# Altium schematic symbol library RT9193.SchLib: 15 symbols
Pins are listed as number, name and electrical type; pins without a type are passive.

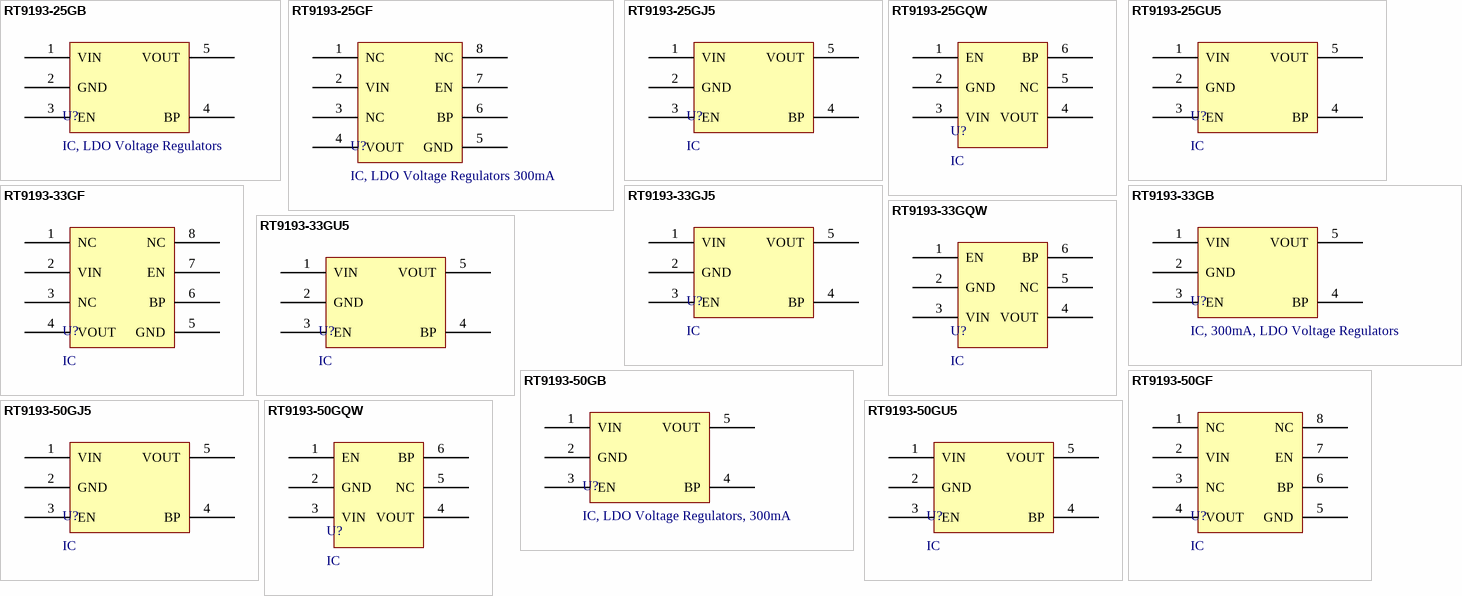
[diagram p0: symbols RT9193-25GB to RT9193-50GU5]

## RT9193-25GB
designator U?, comment IC, LDO Voltage Regulators
LDO Voltage Regulators 300mA, Ultra-Low Noise, Ultra-Fast CMOS LDO Regulator, SOT-23-5, 2.5 V; Kiểu gắn: SMD/SMT; Điện áp đầu ra: 2.5 V; Số lượng đầu ra: 1 Output; Dòng tĩnh: 90 uA; Điện áp đầu vào, Tối đa: 5.5 V; PSRR / Loại bỏ gợn sóng - Điển hình: - 70 dB; Nhiệt độ làm việc tối thiểu: - 40 C; Nhiệt độ làm việc tối đa: + 85 C; Điện áp sụt: 220 mV; Danh mục Sản phẩm: Bộ ổn áp LDO; Đóng gói: SOT-23-5; Dòng đầu ra: 300 mA; ComponentLink1Description: Datasheet; ComponentLink1URL: https://www.mouser.vn/datasheet/2/1458/DS9193_18-3104722.pdf; ComponentLink2Description: Local Supply; ComponentLink2URL: https://www.mouser.vn/ProductDetail/Richtek/RT9193-25GB?qs=amGC7iS6iy%252BWegPok0BkoQ%3D%3D; Điện áp đầu vào, Tối thiểu: 2.5 V
footprint RT9193-25GB (SOT23, 5-Leads, Body 2.90x2.79mm, Pitch 0.95mm, IPC Medium Density)
pins: 1 VIN (power), 2 GND (power), 3 EN (power), 4 BP (power), 5 VOUT (power)

## RT9193-25GF
designator U?, comment IC, LDO Voltage Regulators 300mA
LDO Voltage Regulators 300mA, Ultra-Low Noise, Ultra-Fast CMOS LDO Regulator, MSOP-8, 2.5V; Danh mục Sản phẩm: Bộ ổn áp LDO; Kiểu gắn: SMD/SMT; Dòng tĩnh: 90 uA; Điện áp đầu vào, Tối đa: 5.5 V; PSRR / Loại bỏ gợn sóng - Điển hình: - 70 dB; Nhiệt độ làm việc tối thiểu: - 40 C; Nhiệt độ làm việc tối đa: + 85 C; Điện áp sụt: 220 mV; ComponentLink1Description: Datasheet; ComponentLink1URL: https://www.mouser.vn/datasheet/2/1458/DS9193_18-3104722.pdf; Đóng gói: MSOP-8; Điện áp đầu ra: 2.5V; Dòng đầu ra: 300 mA; Điện áp đầu vào, Tối thiểu: 2.5 V
footprint RT9193-25GF (TSOP, 8-Leads, Body 3.00x3.00mm, Pitch 0.65mm, IPC Medium Density)
pins: 1 NC (power), 2 VIN (power), 3 NC (power), 4 VOUT (power), 5 GND (power), 6 BP (power), 7 EN (power), 8 NC (power)

## RT9193-25GJ5
designator U?, comment IC
LDO Voltage Regulators 300mA, Ultra-Low Noise, Ultra-Fast CMOS LDO Regulator, TSOT-23-5, 2.5V; Danh mục Sản phẩm: Bộ ổn áp LDO; Kiểu gắn: SMD/SMT; Dòng tĩnh: 90 uA; Điện áp đầu vào, Tối đa: 5.5 V; PSRR / Loại bỏ gợn sóng - Điển hình: - 70 dB; Nhiệt độ làm việc tối thiểu: - 40 C; Nhiệt độ làm việc tối đa: + 85 C; Điện áp sụt: 220 mV; ComponentLink1Description: Datasheet; ComponentLink1URL: https://www.mouser.vn/datasheet/2/1458/DS9193_18-3104722.pdf; Đóng gói: TSOT-23-5; Điện áp đầu ra: 2.5V; Dòng đầu ra: 300 mA; Điện áp đầu vào, Tối thiểu: 2.5 V
footprint RT9193-25GJ5 (SOT23, 5-Leads, Body 2.90x2.80mm, Pitch 0.95mm, IPC Medium Density)
pins: 1 VIN (power), 2 GND (power), 3 EN (power), 4 BP (power), 5 VOUT (power)

## RT9193-25GQW
designator U?, comment IC
LDO Voltage Regulators 300mA, Ultra-Low Noise, Ultra-Fast CMOS LDO Regulator, WDFN-6L 2x2 (W-Type), 2.5V; Danh mục Sản phẩm: Bộ ổn áp LDO; Kiểu gắn: SMD/SMT; Dòng tĩnh: 90 uA; Điện áp đầu vào, Tối đa: 5.5 V; PSRR / Loại bỏ gợn sóng - Điển hình: - 70 dB; Nhiệt độ làm việc tối thiểu: - 40 C; Nhiệt độ làm việc tối đa: + 85 C; Điện áp sụt: 220 mV; ComponentLink1Description: Datasheet; ComponentLink1URL: https://www.mouser.vn/datasheet/2/1458/DS9193_18-3104722.pdf; Đóng gói: WDFN-6L 2x2 (W-Type); Điện áp đầu ra: 2.5V; Dòng đầu ra: 300 mA; Điện áp đầu vào, Tối thiểu: 2.5 V
footprint RT9193-25GQW (SON, 6-Leads, Body 2.00x2.00mm, Pitch 0.65mm, Thermal Pad 1.23x0.68mm, IPC Medium Density)
pins: 1 EN (power), 2 GND (power), 3 VIN (power), 4 VOUT (power), 5 NC (power), 6 BP (power)

## RT9193-25GU5
designator U?, comment IC
LDO Voltage Regulators 300mA, Ultra-Low Noise, Ultra-Fast CMOS LDO Regulator, SC-70-5, 2.5V; Danh mục Sản phẩm: Bộ ổn áp LDO; Kiểu gắn: SMD/SMT; Dòng tĩnh: 90 uA; Điện áp đầu vào, Tối đa: 5.5 V; PSRR / Loại bỏ gợn sóng - Điển hình: - 70 dB; Nhiệt độ làm việc tối thiểu: - 40 C; Nhiệt độ làm việc tối đa: + 85 C; Điện áp sụt: 220 mV; ComponentLink1Description: Datasheet; ComponentLink1URL: https://www.mouser.vn/datasheet/2/1458/DS9193_18-3104722.pdf; Đóng gói: SC-70-5; Điện áp đầu ra: 2.5V; Dòng đầu ra: 300 mA; Điện áp đầu vào, Tối thiểu: 2.5 V
footprint RT9193-25GU5 (SOT23, 5-Leads, Body 2.03x2.13mm, Pitch 0.65mm, IPC Medium Density)
pins: 1 VIN (power), 2 GND (power), 3 EN (power), 4 BP (power), 5 VOUT (power)

## RT9193-33GB
designator U?, comment IC, 300mA, LDO Voltage Regulators
LDO Voltage Regulators 300mA, Ultra-Low Noise, Ultra-Fast CMOS LDO Regulator, SOT-23-5,  3.3 V; Điện áp đầu ra: 3.3 V; Số lượng đầu ra: 1 Output; Dòng tĩnh: 90 uA; Điện áp đầu vào, Tối thiểu: 2.5 V; PSRR / Loại bỏ gợn sóng - Điển hình: - 70 dB; Nhiệt độ làm việc tối thiểu: - 40 C; Nhiệt độ làm việc tối đa: + 85 C; Điện áp sụt: 220 mV; Kiểu gắn: SMD/SMT; Danh mục Sản phẩm: Bộ ổn áp LDO; Đóng gói: SOT-23-5; Dòng đầu ra: 300 mA; ComponentLink1Description: Datasheet; ComponentLink1URL: https://www.mouser.vn/datasheet/2/1458/DS9193_18-3104722.pdf; ComponentLink2Description: Local Supply; ComponentLink2URL: https://www.mouser.vn/ProductDetail/Richtek/RT9193-33GB?qs=amGC7iS6iy8ybRcZ9Wn2ww%3D%3D
footprint RT9193-33GB (SOT23, 5-Leads, Body 2.90x2.79mm, Pitch 0.95mm, IPC Medium Density)
pins: 1 VIN (power), 2 GND (power), 3 EN (power), 4 BP (power), 5 VOUT (power)

## RT9193-33GF
designator U?, comment IC
LDO Voltage Regulators 300mA, Ultra-Low Noise, Ultra-Fast CMOS LDO Regulator, MSOP-8, 3.3V; Danh mục Sản phẩm: Bộ ổn áp LDO; Kiểu gắn: SMD/SMT; Dòng tĩnh: 90 uA; Điện áp đầu vào, Tối thiểu: 2.5 V; Điện áp đầu vào, Tối đa: 5.5 V; PSRR / Loại bỏ gợn sóng - Điển hình: - 70 dB; Nhiệt độ làm việc tối thiểu: - 40 C; Nhiệt độ làm việc tối đa: + 85 C; Điện áp sụt: 220 mV; ComponentLink1Description: Datasheet; ComponentLink1URL: https://www.mouser.vn/datasheet/2/1458/DS9193_18-3104722.pdf; Đóng gói: MSOP-8; Điện áp đầu ra: 3.3V; Dòng đầu ra: 300 mA
footprint RT9193-33GF (TSOP, 8-Leads, Body 3.00x3.00mm, Pitch 0.65mm, IPC Medium Density)
pins: 1 NC (power), 2 VIN (power), 3 NC (power), 4 VOUT (power), 5 GND (power), 6 BP (power), 7 EN (power), 8 NC (power)

## RT9193-33GJ5
designator U?, comment IC
LDO Voltage Regulators 300mA, Ultra-Low Noise, Ultra-Fast CMOS LDO Regulator, TSOT-23-5, 3.3V; Danh mục Sản phẩm: Bộ ổn áp LDO; Kiểu gắn: SMD/SMT; Dòng tĩnh: 90 uA; Điện áp đầu vào, Tối thiểu: 2.5 V; Điện áp đầu vào, Tối đa: 5.5 V; PSRR / Loại bỏ gợn sóng - Điển hình: - 70 dB; Nhiệt độ làm việc tối thiểu: - 40 C; Nhiệt độ làm việc tối đa: + 85 C; Điện áp sụt: 220 mV; ComponentLink1Description: Datasheet; ComponentLink1URL: https://www.mouser.vn/datasheet/2/1458/DS9193_18-3104722.pdf; Đóng gói: TSOT-23-5; Điện áp đầu ra: 3.3V; Dòng đầu ra: 300 mA
footprint RT9193-33GJ5 (SOT23, 5-Leads, Body 2.90x2.80mm, Pitch 0.95mm, IPC Medium Density)
pins: 1 VIN (power), 2 GND (power), 3 EN (power), 4 BP (power), 5 VOUT (power)

## RT9193-33GQW
designator U?, comment IC
LDO Voltage Regulators 300mA, Ultra-Low Noise, Ultra-Fast CMOS LDO Regulator, WDFN-6L 2x2 (W-Type), 3.3V; Danh mục Sản phẩm: Bộ ổn áp LDO; Kiểu gắn: SMD/SMT; Dòng tĩnh: 90 uA; Điện áp đầu vào, Tối thiểu: 2.5 V; Điện áp đầu vào, Tối đa: 5.5 V; PSRR / Loại bỏ gợn sóng - Điển hình: - 70 dB; Nhiệt độ làm việc tối thiểu: - 40 C; Nhiệt độ làm việc tối đa: + 85 C; Điện áp sụt: 220 mV; ComponentLink1Description: Datasheet; ComponentLink1URL: https://www.mouser.vn/datasheet/2/1458/DS9193_18-3104722.pdf; Đóng gói: WDFN-6L 2x2 (W-Type); Điện áp đầu ra: 3.3V; Dòng đầu ra: 300 mA
footprint RT9193-50GQW (SON, 6-Leads, Body 2.00x2.00mm, Pitch 0.65mm, Thermal Pad 1.23x0.68mm, IPC Medium Density)
pins: 1 EN (power), 2 GND (power), 3 VIN (power), 4 VOUT (power), 5 NC (power), 6 BP (power)

## RT9193-33GU5
designator U?, comment IC
LDO Voltage Regulators 300mA, Ultra-Low Noise, Ultra-Fast CMOS LDO Regulator, SC-70-5, 3.3V; Danh mục Sản phẩm: Bộ ổn áp LDO; Kiểu gắn: SMD/SMT; Dòng tĩnh: 90 uA; Điện áp đầu vào, Tối thiểu: 2.5 V; Điện áp đầu vào, Tối đa: 5.5 V; PSRR / Loại bỏ gợn sóng - Điển hình: - 70 dB; Nhiệt độ làm việc tối thiểu: - 40 C; Nhiệt độ làm việc tối đa: + 85 C; Điện áp sụt: 220 mV; ComponentLink1Description: Datasheet; ComponentLink1URL: https://www.mouser.vn/datasheet/2/1458/DS9193_18-3104722.pdf; Đóng gói: SC-70-5; Điện áp đầu ra: 3.3V; Dòng đầu ra: 300 mA
footprint RT9193-33GU5 (SOT23, 5-Leads, Body 2.03x2.13mm, Pitch 0.65mm, IPC Medium Density)
pins: 1 VIN (power), 2 GND (power), 3 EN (power), 4 BP (power), 5 VOUT (power)

## RT9193-50GB
designator U?, comment IC, LDO Voltage Regulators, 300mA
LDO Voltage Regulators 300mA, Ultra-Low Noise, Ultra-Fast CMOS LDO Regulator, SOT-23-5, 5V; Danh mục Sản phẩm: Bộ ổn áp LDO; Kiểu gắn: SMD/SMT; Dòng tĩnh: 90 uA; Điện áp đầu vào, Tối thiểu: 2.5 V; Điện áp đầu vào, Tối đa: 5.5 V; PSRR / Loại bỏ gợn sóng - Điển hình: - 70 dB; Loại đầu ra: Fixed; Nhiệt độ làm việc tối thiểu: - 40 C; Nhiệt độ làm việc tối đa: + 85 C; Điện áp sụt: 220 mV; Đóng gói: SOT-23-5; Điện áp đầu ra: 5V; ComponentLink1Description: Datasheet; ComponentLink1URL: https://www.mouser.vn/datasheet/2/1458/DS9193_18-3104722.pdf
footprint RT9193-50GB (SOT23, 5-Leads, Body 2.90x2.79mm, Pitch 0.95mm, IPC Medium Density)
pins: 1 VIN (power), 2 GND (power), 3 EN (power), 4 BP (power), 5 VOUT (power)

## RT9193-50GF
designator U?, comment IC
LDO Voltage Regulators 300mA, Ultra-Low Noise, Ultra-Fast CMOS LDO Regulator, MSOP-8, 5V; Danh mục Sản phẩm: Bộ ổn áp LDO; Kiểu gắn: SMD/SMT; Dòng tĩnh: 90 uA; Điện áp đầu vào, Tối thiểu: 2.5 V; Điện áp đầu vào, Tối đa: 5.5 V; PSRR / Loại bỏ gợn sóng - Điển hình: - 70 dB; Nhiệt độ làm việc tối thiểu: - 40 C; Nhiệt độ làm việc tối đa: + 85 C; Điện áp sụt: 220 mV; ComponentLink1Description: Datasheet; ComponentLink1URL: https://www.mouser.vn/datasheet/2/1458/DS9193_18-3104722.pdf; Đóng gói: MSOP-8; Điện áp đầu ra: 5V; Dòng đầu ra: 300 mA
footprint RT9193-50GF (TSOP, 8-Leads, Body 3.00x3.00mm, Pitch 0.65mm, IPC Medium Density)
pins: 1 NC (power), 2 VIN (power), 3 NC (power), 4 VOUT (power), 5 GND (power), 6 BP (power), 7 EN (power), 8 NC (power)

## RT9193-50GJ5
designator U?, comment IC
LDO Voltage Regulators 300mA, Ultra-Low Noise, Ultra-Fast CMOS LDO Regulator, TSOT-23-5, 5V; Danh mục Sản phẩm: Bộ ổn áp LDO; Kiểu gắn: SMD/SMT; Dòng tĩnh: 90 uA; Điện áp đầu vào, Tối thiểu: 2.5 V; Điện áp đầu vào, Tối đa: 5.5 V; PSRR / Loại bỏ gợn sóng - Điển hình: - 70 dB; Nhiệt độ làm việc tối thiểu: - 40 C; Nhiệt độ làm việc tối đa: + 85 C; Điện áp sụt: 220 mV; ComponentLink1Description: Datasheet; ComponentLink1URL: https://www.mouser.vn/datasheet/2/1458/DS9193_18-3104722.pdf; Đóng gói: TSOT-23-5; Điện áp đầu ra: 5V; Dòng đầu ra: 300 mA
footprint RT9193-50GJ5 (SOT23, 5-Leads, Body 2.90x2.80mm, Pitch 0.95mm, IPC Medium Density)
pins: 1 VIN (power), 2 GND (power), 3 EN (power), 4 BP (power), 5 VOUT (power)

## RT9193-50GQW
designator U?, comment IC
LDO Voltage Regulators 300mA, Ultra-Low Noise, Ultra-Fast CMOS LDO Regulator, WDFN-6L 2x2 (W-Type), 5V; Danh mục Sản phẩm: Bộ ổn áp LDO; Kiểu gắn: SMD/SMT; Dòng tĩnh: 90 uA; Điện áp đầu vào, Tối thiểu: 2.5 V; Điện áp đầu vào, Tối đa: 5.5 V; PSRR / Loại bỏ gợn sóng - Điển hình: - 70 dB; Nhiệt độ làm việc tối thiểu: - 40 C; Nhiệt độ làm việc tối đa: + 85 C; Điện áp sụt: 220 mV; ComponentLink1Description: Datasheet; ComponentLink1URL: https://www.mouser.vn/datasheet/2/1458/DS9193_18-3104722.pdf; Đóng gói: WDFN-6L 2x2 (W-Type); Điện áp đầu ra: 5V; Dòng đầu ra: 300 mA
footprint RT9193-50GQW (SON, 6-Leads, Body 2.00x2.00mm, Pitch 0.65mm, Thermal Pad 1.23x0.68mm, IPC Medium Density)
pins: 1 EN (power), 2 GND (power), 3 VIN (power), 4 VOUT (power), 5 NC (power), 6 BP (power)

## RT9193-50GU5
designator U?, comment IC
LDO Voltage Regulators 300mA, Ultra-Low Noise, Ultra-Fast CMOS LDO Regulator, SC-70-5, 5V; Danh mục Sản phẩm: Bộ ổn áp LDO; Kiểu gắn: SMD/SMT; Dòng tĩnh: 90 uA; Điện áp đầu vào, Tối thiểu: 2.5 V; Điện áp đầu vào, Tối đa: 5.5 V; PSRR / Loại bỏ gợn sóng - Điển hình: - 70 dB; Nhiệt độ làm việc tối thiểu: - 40 C; Nhiệt độ làm việc tối đa: + 85 C; Điện áp sụt: 220 mV; ComponentLink1Description: Datasheet; ComponentLink1URL: https://www.mouser.vn/datasheet/2/1458/DS9193_18-3104722.pdf; Đóng gói: SC-70-5; Điện áp đầu ra: 5V; Dòng đầu ra: 300 mA
footprint RT9193-50GU5 (SOT23, 5-Leads, Body 2.03x2.13mm, Pitch 0.65mm, IPC Medium Density)
pins: 1 VIN (power), 2 GND (power), 3 EN (power), 4 BP (power), 5 VOUT (power)